# Altium footprint library PcbLib1.PcbLib: 4 footprints
Each footprint in its own frame and in the unit in brackets; x right, y up, seen from the top. Pads: shape width x height; smd on the part's side, far side on the other; paste and mask are expansions set on the pad; w line width, h text height; cw(c..) or ccw(c..) is an arc to the next point about the centre after c.
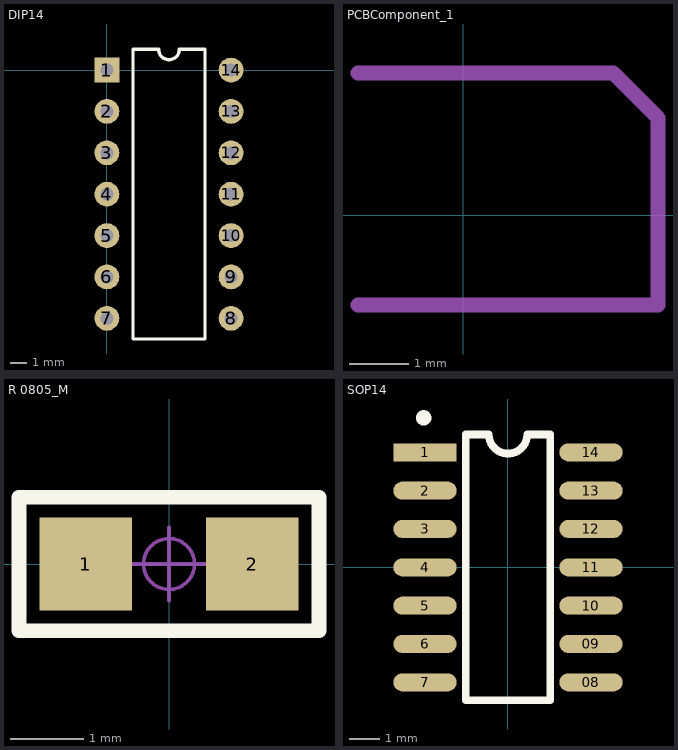
[diagram p0: the footprints below, top view; thin cyan lines are the x and y axes]

## DIP14 [mm]
pads (14):
  rect 1.52x1.52 hole 0.8: 1(0,0)
  round 1.52 hole 0.8: 2(0,-2.54) 3(0,-5.08) 4(0,-7.62) 5(0,-10.16) 6(0,-12.7) 7(0,-15.24) 8(7.62,-15.24) 9(7.62,-12.7) 10(7.62,-10.16) 11(7.62,-7.62) 12(7.62,-5.08) 13(7.62,-2.54) 14(7.62,0)
Top Overlay:
  lines w0.2: 1.595,-16.51 6.025,-16.51 6.025,1.27 4.445,1.27 cw(c3.81,1.27) 3.175,1.27 1.595,1.27 1.595,-16.51

## PCBComponent_1 [mm]
height 0.127
Mechanical 1:
  lines w0.254: -1.778,-1.524 3.302,-1.524 3.302,1.651 2.54,2.413 -1.778,2.413
3D body: height 0.25, standoff 0.13, extent -1.779,-1.525 3.301,2.414
3D body: height 0.25, standoff 0, extent -1.779,-1.525 3.303,2.414

## R 0805_M [mil] "1/8W贴片电阻"
height 100
pads (2):
  rect 50x50 smd: 1(-45,0) 2(45,0)
Top Overlay:
  lines w8: -81,-36 81,-36 81,36 -81,36 -81,-36
Mechanical 15:
  circle w1.97: c0,0 r13.78
  lines w1.97: -19.68,0 19.68,0 ; 0,-19.68 0,19.68
3D body "R 0805.STEP": height 19.72, standoff -0.24, extent -39.37,-24.6 39.37,24.61

## SOP14 [mm] "Hand_Footprint"
height 1.5
pads (14):
  rect 2.1x0.6 smd: 1(-2.75,3.81)
  oval 2.1x0.6 smd: 2(-2.75,2.54) 3(-2.75,1.27) 4(-2.75,0) 5(-2.75,-1.27) 6(-2.75,-2.54) 7(-2.75,-3.81) 08(2.75,-3.81) 09(2.75,-2.54) 10(2.75,-1.27) 11(2.75,0) 12(2.75,1.27) 13(2.75,2.54) 14(2.75,3.81)
Top Overlay:
  circle w0.254: c-2.794,4.953 r0.127
  lines w0.254: -1.397,-4.402 1.397,-4.402 1.397,-1.651 1.397,-0.508 1.397,4.402 1.016,4.402 0.635,4.402 cw(c0,4.402) -0.635,4.402 -1.397,4.402 -1.397,1.143 -1.397,0 -1.397,-4.402
3D body "User Library-SOP14.step": height 1.39, standoff 0, extent -3.119,-4.375 3.119,4.375